# EAGLE library part 74HC541 (library ds_ic_logic)
SNx4LVC541A Octal Buffers/Drivers With 3-State Outputs
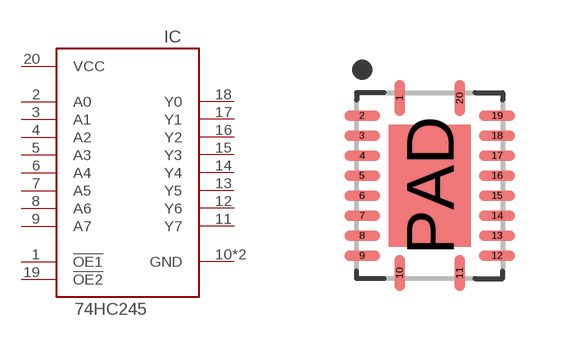
[diagram p14: symbol with the pads of QFN50P350X450X100-25T305X205N; footprint QFN50P350X450X100-25T305X205N]

Designator prefix IC

## 74HC541A  [QFN50P350X450X100-25T305X205N]
1  !OE1  in
2  A0
3  A1
4  A2
5  A3
6  A4
7  A5
8  A6
9  A7
10  GND  sup
11  Y7
12  Y6
13  Y5
14  Y4
15  Y3
16  Y2
17  Y1
18  Y0
19  !OE2  in
20  VCC  sup
PAD  GND  sup

## Footprint QFN50P350X450X100-25T305X205N (pad centres in mm)
24-QFN, 0.50 mm pitch, 3.50 X 4.50 X 1.00 mm body, 3.05 X 2.05 mm thermal pad 24-pin QFN package with 0.50 mm pitch with body size 3.50 X 4.50 X 1.00 mm and thermal pad size 3.05 X 2.05 mm
smd 0.264 x 0.896: 1 -0.75,2.187; 10 -0.75,-2.187; 11 0.75,-2.187; 20 0.75,2.187
smd 0.896 x 0.264: 2 -1.687,1.75; 3 -1.687,1.25; 4 -1.687,0.75; 5 -1.687,0.25; 6 -1.687,-0.25; 7 -1.687,-0.75; 8 -1.687,-1.25; 9 -1.687,-1.75; 12 1.687,-1.75; 13 1.687,-1.25; 14 1.687,-0.75; 15 1.687,-0.25; 16 1.687,0.25; 17 1.687,0.75; 18 1.687,1.25; 19 1.687,1.75
smd 2.05 x 3.05: PAD 0,0